# Altium schematic symbol library MAGI-M8.SchLib: 1 symbol
Pins are listed as number, name and electrical type; pins without a type are passive.

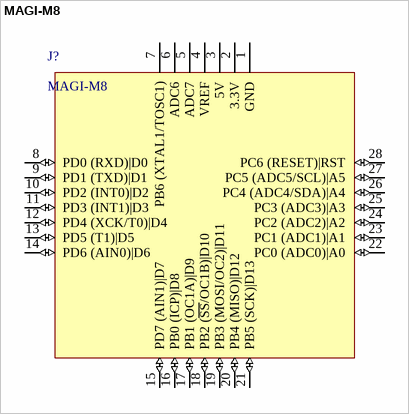
[diagram p0: symbol MAGI-M8]

## MAGI-M8
designator J?
footprint MAGI-M8
pins: 1 GND (power), 2 3.3V (power), 3 5V (power), 4 VREF, 5 ADC7, 6 ADC6, 7 PB6 (XTAL1/TOSC1), 8 PD0 (RXD)|D0 (io), 9 PD1 (TXD)|D1 (io), 10 PD2 (INT0)|D2 (io), 11 PD3 (INT1)|D3 (io), 12 PD4 (XCK/T0)|D4 (io), 13 PD5 (T1)|D5 (io), 14 PD6 (AIN0)|D6 (io), 15 PD7 (AIN1)|D7 (io), 16 PB0 (ICP)|D8 (io), 17 PB1 (OC1A)|D9 (io), 18 PB2 (~{SS}/OC1B)|D10 (io), 19 PB3 (MOSI/OC2)|D11 (io), 20 PB4 (MISO)|D12 (io), 21 PB5 (SCK)|D13 (io), 22 PC0 (ADC0)|A0 (io), 23 PC1 (ADC1)|A1 (io), 24 PC2 (ADC2)|A2 (io), 25 PC3 (ADC3)|A3 (io), 26 PC4 (ADC4/SDA)|A4 (io), 27 PC5 (ADC5/SCL)|A5 (io), 28 PC6 (RESET)|RST (io)